# Altium footprint library Blueberry_digital.PcbLib: 39 footprints (part 2 of 3)
Each footprint in its own frame and in the unit in brackets; x right, y up, seen from the top. Pads: shape width x height; smd on the part's side, far side on the other; paste and mask are expansions set on the pad; w line width, h text height; cw(c..) or ccw(c..) is an arc to the next point about the centre after c.
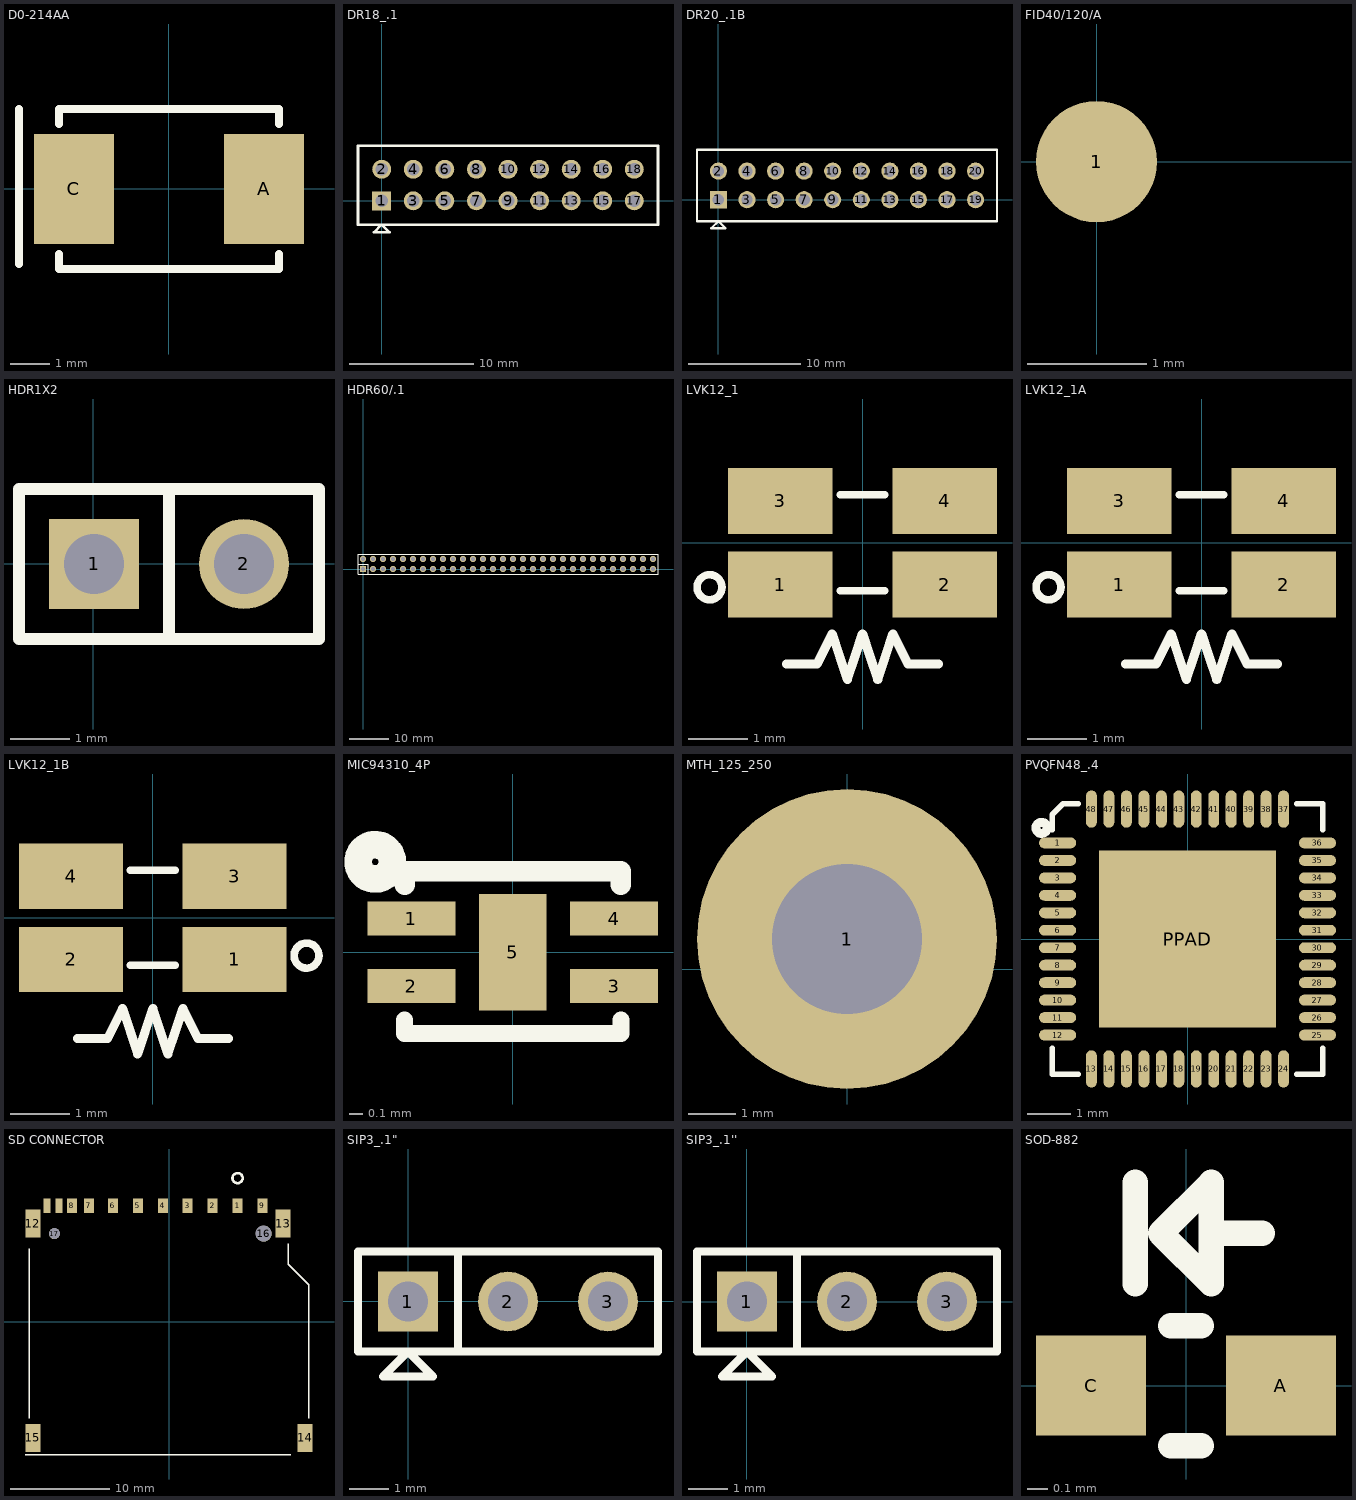
[diagram p1: the footprints below, top view; thin cyan lines are the x and y axes]

## D0-214AA [mil]
pads (2):
  rect 80x110 smd: A(95.42,-0.34) C(-94.58,-0.34)
Top Overlay:
  lines w8: -149.58,-75.34 -149.58,79.66 ; -109.58,-65.34 -109.58,-80.34 110.42,-80.34 110.42,-65.34 ; -109.58,64.66 -109.58,79.66 110.42,79.66 110.42,64.66

## DR18_.1 [mil]
pads (18):
  rect 60x60 hole 40: 1(0,0)
  round 60 hole 40: 2(0,100) 3(100,0) 4(100,100) 5(200,0) 6(200,100) 7(300,0) 8(300,100) 9(400,0) 10(400,100) 11(500,0) 12(500,100) 13(600,0) 14(600,100) 15(700,0) 16(700,100) 17(800,0) 18(800,100)
Top Overlay:
  lines w8: -75,-75 -75,175 875,175 875,-75 -75,-75 ; -25,-100 0,-75 25,-100 -25,-100

## DR20_.1B [mil]
pads (20):
  rect 60x60 hole 40: 1(0,0)
  round 60 hole 40: 2(0,100) 3(100,0) 4(100,100) 5(200,0) 6(200,100) 7(300,0) 8(300,100) 9(400,0) 10(400,100) 11(500,0) 12(500,100) 13(600,0) 14(600,100) 15(700,0) 16(700,100) 17(800,0) 18(800,100) 19(900,0) 20(900,100)
Top Overlay:
  lines w8: -75,-75 -75,175 975,175 975,-75 -75,-75 ; -25,-100 0,-75 25,-100 -25,-100

## FID40/120/A [mil]
pads (1):
  round 40 smd: 1(0,0)
Top Overlay:

## HDR1X2 [mil]
pads (2):
  rect 60x60 hole 40: 1(0.45,-0.03)
  round 60 hole 40: 2(100.45,-0.03)
Top Overlay:
  lines w8: 50.45,-50.03 50.45,49.97 ; -49.55,-50.03 -49.55,49.97 150.45,49.97 150.45,-50.03 -49.55,-50.03

## HDR60/.1 [mil]
pads (60):
  rect 60x60 hole 40: 1(0,0)
  round 60 hole 40: 2(0,100) 3(100,0) 4(100,100) 5(200,0) 6(200,100) 7(300,0) 8(300,100) 9(400,0) 10(400,100) 11(500,0) 12(500,100) 13(600,0) 14(600,100) 15(700,0) 16(700,100) 17(800,0) 18(800,100) 19(900,0) 20(900,100) 21(1000,0) 22(1000,100) 23(1100,0) 24(1100,100) 25(1200,0) 26(1200,100) 27(1300,0) 28(1300,100) 29(1400,0) 30(1400,100) 31(1500,0) 32(1500,100) 33(1600,0) 34(1600,100) 35(1700,0) 36(1700,100) 37(1800,0) 38(1800,100) 39(1900,0) 40(1900,100) 41(2000,0) 42(2000,100) 43(2100,0) 44(2100,100) 45(2200,0) 46(2200,100) 47(2300,0) 48(2300,100) 49(2400,0) 50(2400,100) 51(2500,0) 52(2500,100) 53(2600,0) 54(2600,100) 55(2700,0) 56(2700,100) 57(2800,0) 58(2800,100) 59(2900,0) 60(2900,100)
Top Overlay:
  lines w8: -50,50 50,50 50,-50 ; -50,-50 -50,150 2950,150 2950,-50 -50,-50

## LVK12_1 [mm]
pads (4):
  rect 1.75x1.1 smd: 1(-1.375,-0.7) 2(1.375,-0.7) 3(-1.375,0.7) 4(1.375,0.7)
Top Overlay:
  circle w0.127: c-2.561,-0.745 r0.209
  lines w0.127: -0.375,-0.8 0.375,-0.8 ; -0.375,0.8 0.375,0.8
  lines w0.152: -1.27,-2.032 -0.762,-2.032 -0.508,-1.524 -0.254,-2.286 0,-1.524 0.254,-2.286 0.508,-1.524 0.762,-2.032 1.27,-2.032

## LVK12_1A [mm]
pads (4):
  rect 1.75x1.1 smd: 1(-1.375,-0.7) 2(1.375,-0.7) 3(-1.375,0.7) 4(1.375,0.7)
Top Overlay:
  circle w0.127: c-2.561,-0.745 r0.209
  lines w0.127: -0.375,-0.8 0.375,-0.8 ; -0.375,0.8 0.375,0.8
  lines w0.152: -1.27,-2.032 -0.762,-2.032 -0.508,-1.524 -0.254,-2.286 0,-1.524 0.254,-2.286 0.508,-1.524 0.762,-2.032 1.27,-2.032

## LVK12_1B [mm]
pads (4):
  rect 1.75x1.1 smd: 1(1.375,-0.7) 2(-1.375,-0.7) 3(1.375,0.7) 4(-1.375,0.7)
Top Overlay:
  circle w0.127: c2.585,-0.635 r0.209
  lines w0.127: -0.375,-0.8 0.375,-0.8 ; -0.375,0.8 0.375,0.8
  lines w0.152: -1.27,-2.032 -0.762,-2.032 -0.508,-1.524 -0.254,-2.286 0,-1.524 0.254,-2.286 0.508,-1.524 0.762,-2.032 1.27,-2.032

## MIC94310_4P [mm]
pads (5):
  rect 0.65x0.25 smd: 1(-0.75,0.25) 2(-0.75,-0.25) 3(0.75,-0.25) 4(0.75,0.25)
  rect 0.5x0.86 smd: 5(0,0)
Top Overlay:
  circle w0.203: c-1.018,0.67 r0.127
  lines w0.127: -0.8,-0.5 -0.8,-0.6 0.8,-0.6 0.8,-0.5
  lines w0.152: -0.8,0.5 -0.8,0.6 0.8,0.6 0.8,0.5

## MTH_125_250 [mm]
pads (1):
  round 6.35 / inner round 3.81 / far side round 6.35 hole 3.175: 1(0,0.635)

## PVQFN48_.4 [mm]
pads (49):
  oval 0.85x0.25 smd: 1(-2.975,2.2) 2(-2.975,1.8) 3(-2.975,1.4) 4(-2.975,1) 5(-2.975,0.6) 6(-2.975,0.2) 7(-2.975,-0.2) 8(-2.975,-0.6) 9(-2.975,-1) 10(-2.975,-1.4) 11(-2.975,-1.8) 12(-2.975,-2.2) 25(2.975,-2.2) 26(2.975,-1.8) 27(2.975,-1.4) 28(2.975,-1) 29(2.975,-0.6) 30(2.975,-0.2) 31(2.975,0.2) 32(2.975,0.6) 33(2.975,1) 34(2.975,1.4) 35(2.975,1.8) 36(2.975,2.2)
  oval 0.25x0.85 smd: 13(-2.2,-2.975) 14(-1.8,-2.975) 15(-1.4,-2.975) 16(-1,-2.975) 17(-0.6,-2.975) 18(-0.2,-2.975) 19(0.2,-2.975) 20(0.6,-2.975) 21(1,-2.975) 22(1.4,-2.975) 23(1.8,-2.975) 24(2.2,-2.975) 37(2.2,2.975) 38(1.8,2.975) 39(1.4,2.975) 40(1,2.975) 41(0.6,2.975) 42(0.2,2.975) 43(-0.2,2.975) 44(-0.6,2.975) 45(-1,2.975) 46(-1.4,2.975) 47(-1.8,2.975) 48(-2.2,2.975)
  rect 4.05x4.05 smd: PPAD(0,0)
Top Overlay:
  circle w0.203: c-3.343,2.545 r0.127
  lines w0.127: -3.1,-2.5 -3.1,-3.1 -2.5,-3.1 ; -3.1,2.5 -3.1,2.846 -2.846,3.1 -2.5,3.1 ; 2.5,-3.1 3.1,-3.1 3.1,-2.5 ; 2.5,3.1 3.1,3.1 3.1,2.5

## SD CONNECTOR [mm]
pads (17):
  rect 1x1.5 smd: 1(6.875,11.65) 2(4.375,11.65) 3(1.875,11.65) 4(-0.625,11.65) 5(-3.125,11.65) 6(-5.625,11.65) 7(-8.05,11.65) 8(-9.75,11.65) 9(9.375,11.65)
  rect 0.7x1.5 smd: 10(-11.05,11.65) 11(-12.25,11.65)
  rect 1.5x2.8 smd: 12(-13.65,9.85) 13(11.45,9.85) 14(13.65,-11.65) 15(-13.65,-11.65)
  round 1.6 hole 1.6: 16(9.5,8.85)
  round 1.1 hole 1.1: 17(-11.5,8.85)
Top Overlay:
  circle w0.254: c6.878,14.422 r0.508
  lines w0.127: -14.4,-13.35 12.2,-13.35 ; -14,-9.65 -14,7.35 ; 11.958,7.818 11.958,5.786 13.99,3.754 14,3.744 14,2.85 14,-9.65

## SIP3_.1" [mil]
pads (3):
  rect 60x60 hole 40: 1(-0.46,-0.46)
  round 60 hole 40: 2(99.54,-0.46) 3(199.54,-0.46)
Top Overlay:
  lines w8: 49.54,-50.46 49.54,49.54 ; -50.46,-50.46 -50.46,49.54 249.54,49.54 249.54,-50.46 -50.46,-50.46 ; -25.46,-75.46 24.54,-75.46 -0.46,-50.46 -25.46,-75.46

## SIP3_.1'' [mil]
pads (3):
  rect 60x60 hole 40: 1(0,0)
  round 60 hole 40: 2(100,0) 3(200,0)
Top Overlay:
  lines w8: 50,-50 50,50 ; -50,-50 250,-50 250,50 -50,50 -50,-50 ; -25,-75 0,-50 25,-75 -25,-75

## SOD-882 [mm]
pads (2):
  rect 0.55x0.5 smd: A(0.475,0) C(-0.475,0)
Top Overlay:
  lines w0.127: -0.254,0.508 -0.254,1.016 ; -0.076,-0.3 0.076,-0.3 ; -0.076,0.3 0.076,0.3 ; 0.127,0.762 0.381,0.762 ; -0.127,0.762 0.127,1.016 0.127,0.508 -0.127,0.762